# Altium footprint library XCVR_ESP32-C3-DEVKITM-1.PcbLib: 1 footprints
Each footprint in its own frame and in the unit in brackets; x right, y up, seen from the top. Pads: shape width x height; smd on the part's side, far side on the other; paste and mask are expansions set on the pad; w line width, h text height; cw(c..) or ccw(c..) is an arc to the next point about the centre after c.
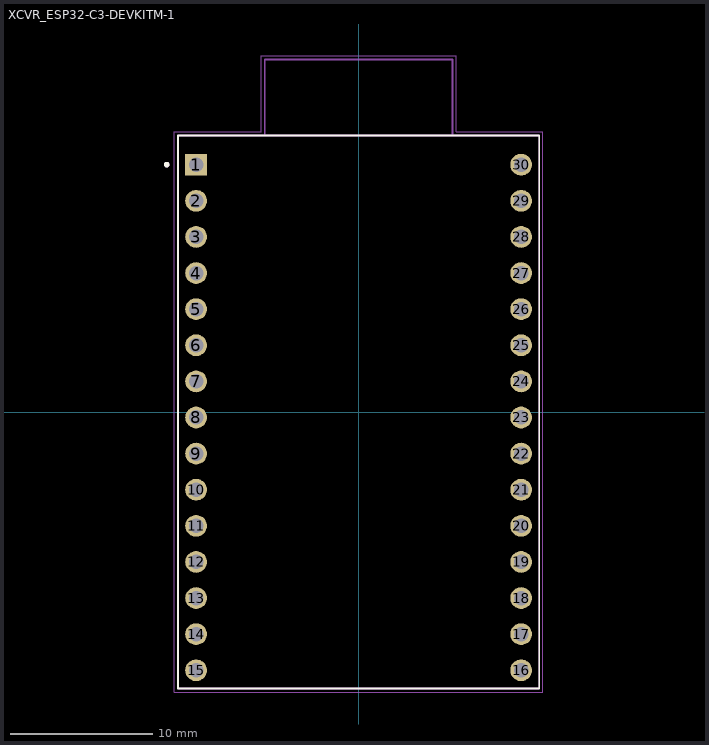
[diagram p0: the footprint, top view; thin cyan lines are the x and y axes]

## XCVR_ESP32-C3-DEVKITM-1 [mm]
pads (30):
  rect 1.53x1.53 / inner round 1.53 / far side rect 1.53x1.53 hole 1.02: 1(-11.43,17.395)
  round 1.53 hole 1.02: 2(-11.43,14.855) 3(-11.43,12.315) 4(-11.43,9.775) 5(-11.43,7.235) 6(-11.43,4.695) 7(-11.43,2.155) 8(-11.43,-0.385) 9(-11.43,-2.925) 10(-11.43,-5.465) 11(-11.43,-8.005) 12(-11.43,-10.545) 13(-11.43,-13.085) 14(-11.43,-15.625) 15(-11.43,-18.165) 16(11.43,-18.165) 17(11.43,-15.625) 18(11.43,-13.085) 19(11.43,-10.545) 20(11.43,-8.005) 21(11.43,-5.465) 22(11.43,-2.925) 23(11.43,-0.385) 24(11.43,2.155) 25(11.43,4.695) 26(11.43,7.235) 27(11.43,9.775) 28(11.43,12.315) 29(11.43,14.855) 30(11.43,17.395)
Top Overlay:
  circle w0.2: c-13.5,17.4 r0.1
  lines w0.127: -12.7,-19.455 -12.7,19.455 12.7,19.455 12.7,-19.455 -12.7,-19.455
Assembly Top:
  circle w0.2: c-13.5,17.4 r0.1
  lines w0.127: -6.6,19.455 -12.7,19.455 -12.7,-19.455 12.7,-19.455 12.7,19.455 6.6,19.455 ; -6.6,19.455 -6.6,24.803 6.6,24.803 6.6,19.455 ; -6.6,19.455 6.6,19.455
Courtyard Top:
  lines w0.05: -12.95,-19.705 -12.95,19.705 -6.85,19.705 -6.85,25.053 6.85,25.053 6.85,19.705 12.95,19.705 12.95,-19.705 -12.95,-19.705
3D body "step_temp.STEP": height 7.14, standoff -6, extent -12.7,-19.945 12.7,24.775